# Altium integrated library Analog Devices Switches and Multiplexers Analog Switches.IntLib: 575 symbols (part 9 of 23)
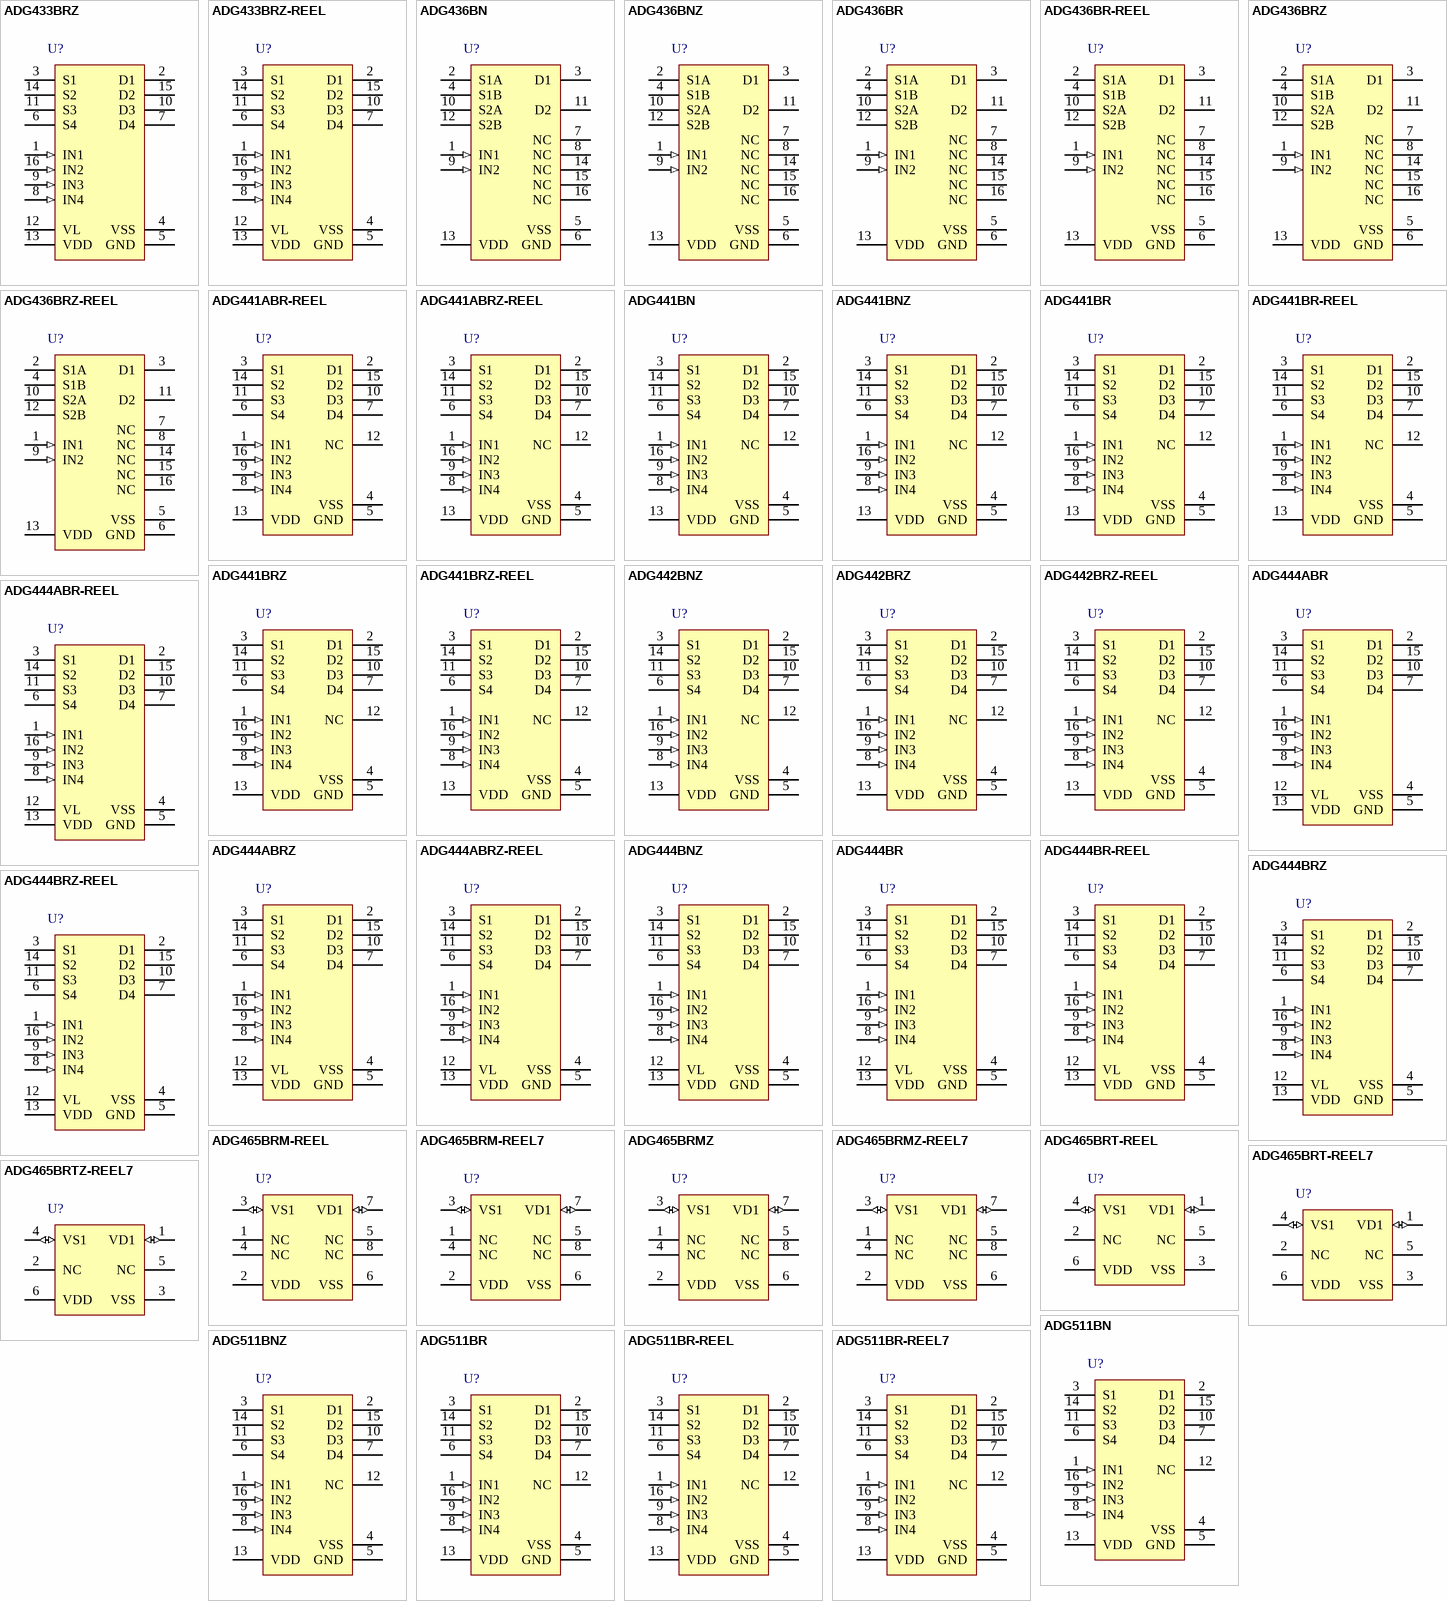
[diagram p23: symbols ADG433BRZ to ADG511BR-REEL7]

## ADG465BRTZ-REEL7
designator U?
Single Channel Protector, 80 Ohm Ron, 6-pin SOT23 (RT-6), Reel; Manufacturer: Analog Devices; PartNumber: ADG465BRTZ-REEL7; # Sw Functions: 1; Max Neg Supply: -20V; Max Pos Supply: +20V; Ron (ohms): 80; DatasheetVersion: Rev. A; PackageVersion: 121608-A, 12/2008; PackageReference: RJ-6; PackageDescription: 6-Pin Small Outline Transistor Package, Body 2.9 x 1.6 mm, Pitch 0.95 mm; Supplier 1: Digi-Key; Supplier Part Number 1: ADG465BRTZ-REEL7TR-ND; Supplier 2: Digi-Key; Supplier Part Number 2: ADG465BRTZ-REEL7CT-ND; Supplier 3: Digi-Key; Supplier Part Number 3: ADG465BRTZ-REEL7DKR-ND; Supplier 4: Farnell; Supplier Part Number 4: 2376952; Supplier 5: Farnell; Supplier Part Number 5: 2312836; Supplier 6: Newark; Supplier Part Number 6: 67W2636; Supplier 7: Newark; Supplier Part Number 7: 59K1345; Supplier 8: Mouser; Supplier Part Number 8: 584-ADG465BRTZ-R7; Configuration: Channel Protector; Packing: Reel; Mounting Technology: Surface Mount; Code_JEDEC: MO-178-AB; ComponentLink1Description: Manufacturer URL; ComponentLink1URL: http://www.analog.com/en/index.html; ComponentLink2Description: Datasheet; ComponentLink2URL: http://www.analog.com/static/imported-files/data_sheets/ADG465.pdf; ComponentLink3Description: Package Specification; ComponentLink3URL: http://www.analog.com/static/imported-files/packages/PKG_PDF/SOT-23(RJ)/RJ_6.pdf
footprint ADI-RJ-6_N (SOT23, 6-Leads, Body 2.9x1.6mm, Pitch 0.95mm, IPC Medium Density)
footprint ADI-RJ-6_L (SOT23, 6-Leads, Body 2.9x1.6mm, Pitch 0.95mm, IPC High Density)
footprint ADI-RJ-6_M (SOT23, 6-Leads, Body 2.9x1.6mm, Pitch 0.95mm, IPC Low Density)
pins: 1 VD1 (io) "VD1, this is one terminal of the channel protector. The channel protector is bidirectional so this terminal may be used as an input or an output.", 2 NC "NC, this is a no connect pin.", 3 VSS (power) "VSS, Negative Power Supply (0 V to -20 V). The clamping point for a negative overvoltage is also defined by VSS, see Overvoltage Protection section.", 4 VS1 (io) "VS1, this is one terminal of the channel protector. The channel protector is bidirectional so this terminal may be used as an output or an input.", 5 NC "NC, this is a no connect pin.", 6 VDD (power) "VDD, Positive Power Supply (0 V to 20 V). The clamping point for a positive overvoltage is also defined by VDD, see Overvoltage Protection section."

## ADG511BN
designator U?
LC2MOS Precision 5 V / 3 V Quad SPST Switches, 30 Ohm Ron, 16-pin DIP (N-16), Tube; Manufacturer: Analog Devices; PartNumber: ADG511BN; # Sw Functions: 4; Max Neg Supply: -5.5V; Max Pos Supply: +5.5V; Ron (ohms): 30, 45, 200; t ON: 200ns, 250ns, 600ns; DatasheetVersion: Rev. C; PackageVersion: 070706-A, 07/2006; PackageReference: N-16; PackageDescription: 16-Pin Plastic Dual In-Line Package, Row spacing 7.62 mm, Pitch 2.54 mm; Supplier 1: Digi-Key; Supplier Part Number 1: ADG511BN-ND; Configuration: SPST; Packing: Tube; Mounting Technology: Through Hole; Code_JEDEC: MS-001; ComponentLink1Description: Manufacturer URL; ComponentLink1URL: http://www.analog.com/en/index.html; ComponentLink2Description: Datasheet; ComponentLink2URL: http://www.analog.com/static/imported-files/data_sheets/ADG511_512_513.pdf; ComponentLink3Description: Package Specification; ComponentLink3URL: http://www.analog.com/static/imported-files/packages/44768431550332N_16.pdf
footprint ADI-N-16 (DIP, 16-Leads, Body 20.07x6.6mm, Pitch 2.54mm)
pins: 1 IN1 (in) "Logic Control Input.", 2 D1 "Drain Terminal. May be an input or output.", 3 S1 "Source Terminal. May be an input or output.", 4 VSS (power) "Most Negative Power Supply Potential in dual supplies. In single supply applications,it may be connected to GND.", 5 GND (power) "Ground (0 V) Reference.", 6 S4 "Source Terminal. May be an input or output.", 7 D4 "Drain Terminal. May be an input or output.", 8 IN4 (in) "Logic Control Input.", 9 IN3 (in) "Logic Control Input.", 10 D3 "Drain Terminal. May be an input or output.", 11 S3 "Source Terminal. May be an input or output.", 12 NC "Not connected.", 13 VDD (power) "Most Positive Power Supply Potential.", 14 S2 "Source Terminal. May be an input or output.", 15 D2 "Drain Terminal. May be an input or output.", 16 IN2 (in) "Logic Control Input."

## ADG511BNZ
designator U?
LC2MOS Precision 5 V / 3 V Quad SPST Switches, 30 Ohm Ron, 16-pin DIP (N-16), Tube; Manufacturer: Analog Devices; PartNumber: ADG511BNZ; # Sw Functions: 4; Max Neg Supply: -5.5V; Max Pos Supply: +5.5V; Ron (ohms): 30, 45, 200; t ON: 200ns, 250ns, 600ns; DatasheetVersion: Rev. C; PackageVersion: 070706-A, 07/2006; PackageReference: N-16; PackageDescription: 16-Pin Plastic Dual In-Line Package, Row spacing 7.62 mm, Pitch 2.54 mm; Supplier 1: Digi-Key; Supplier Part Number 1: ADG511BNZ-ND; Supplier 2: Newark; Supplier Part Number 2: 59K1379; Configuration: SPST; Packing: Tube; Mounting Technology: Through Hole; Code_JEDEC: MS-001; ComponentLink1Description: Manufacturer URL; ComponentLink1URL: http://www.analog.com/en/index.html; ComponentLink2Description: Datasheet; ComponentLink2URL: http://www.analog.com/static/imported-files/data_sheets/ADG511_512_513.pdf; ComponentLink3Description: Package Specification; ComponentLink3URL: http://www.analog.com/static/imported-files/packages/44768431550332N_16.pdf
footprint ADI-N-16 (DIP, 16-Leads, Body 20.07x6.6mm, Pitch 2.54mm)
pins: 1 IN1 (in) "Logic Control Input.", 2 D1 "Drain Terminal. May be an input or output.", 3 S1 "Source Terminal. May be an input or output.", 4 VSS (power) "Most Negative Power Supply Potential in dual supplies. In single supply applications,it may be connected to GND.", 5 GND (power) "Ground (0 V) Reference.", 6 S4 "Source Terminal. May be an input or output.", 7 D4 "Drain Terminal. May be an input or output.", 8 IN4 (in) "Logic Control Input.", 9 IN3 (in) "Logic Control Input.", 10 D3 "Drain Terminal. May be an input or output.", 11 S3 "Source Terminal. May be an input or output.", 12 NC "Not connected.", 13 VDD (power) "Most Positive Power Supply Potential.", 14 S2 "Source Terminal. May be an input or output.", 15 D2 "Drain Terminal. May be an input or output.", 16 IN2 (in) "Logic Control Input."

## ADG511BR
designator U?
LC2MOS Precision 5 V / 3 V Quad SPST Switches, 30 Ohm Ron, 16-pin SOIC (R-16), Tube; Manufacturer: Analog Devices; PartNumber: ADG511BR; # Sw Functions: 4; Max Neg Supply: -5.5V; Max Pos Supply: +5.5V; Ron (ohms): 30, 45, 200; t ON: 200ns, 250ns, 600ns; DatasheetVersion: Rev. C; PackageVersion: 060606-A, 06/2006; PackageReference: R-16; PackageDescription: 16-Pin Standard Small Outline Package, Body 9.9 x 3.9 mm, Pitch 1.27 mm; Supplier 1: Digi-Key; Supplier Part Number 1: ADG511BR-ND; Supplier 2: Mouser; Supplier Part Number 2: 584-ADG511BR; Configuration: SPST; Packing: Tube; Mounting Technology: Surface Mount; Code_JEDEC: MS-012-AC; ComponentLink1Description: Manufacturer URL; ComponentLink1URL: http://www.analog.com/en/index.html; ComponentLink2Description: Datasheet; ComponentLink2URL: http://www.analog.com/static/imported-files/data_sheets/ADG511_512_513.pdf; ComponentLink3Description: Package Specification; ComponentLink3URL: http://www.analog.com/static/imported-files/packages/PKG_PDF/SOIC_Narrow%20(R)/R_16.pdf
footprint ADI-R-16_N (SOIC, 16-Leads, Body 9.9x3.9mm, Pitch 1.27mm, IPC Medium Density)
footprint ADI-R-16_L (SOIC, 16-Leads, Body 9.9x3.9mm, Pitch 1.27mm, IPC High Density)
footprint ADI-R-16_M (SOIC, 16-Leads, Body 9.9x3.9mm, Pitch 1.27mm, IPC Low Density)
pins: 1 IN1 (in) "Logic Control Input.", 2 D1 "Drain Terminal. Can be an input or output.", 3 S1 "Source Terminal. Can be an input or output.", 4 VSS (power) "Most Negative Power Supply Potential.", 5 GND (power) "Ground (0 V) Reference.", 6 S4 "Source Terminal. Can be an input or output.", 7 D4 "Drain Terminal. Can be an input or output.", 8 IN4 (in) "Logic Control Input.", 9 IN3 (in) "Logic Control Input.", 10 D3 "Drain Terminal. Can be an input or output.", 11 S3 "Source Terminal. Can be an input or output.", 12 NC "No Connect.", 13 VDD (power) "Most Positive Power Supply Potential.", 14 S2 "Source Terminal. Can be an input or output.", 15 D2 "Drain Terminal. Can be an input or output.", 16 IN2 (in) "Logic Control Input."

## ADG511BR-REEL
designator U?
LC2MOS Precision 5 V / 3 V Quad SPST Switches, 30 Ohm Ron, 16-pin SOIC (R-16), Reel; Manufacturer: Analog Devices; PartNumber: ADG511BR-REEL; # Sw Functions: 4; Max Neg Supply: -5.5V; Max Pos Supply: +5.5V; Ron (ohms): 30, 45, 200; t ON: 200ns, 250ns, 600ns; DatasheetVersion: Rev. C; PackageVersion: 060606-A, 06/2006; PackageReference: R-16; PackageDescription: 16-Pin Standard Small Outline Package, Body 9.9 x 3.9 mm, Pitch 1.27 mm; Supplier 1: Digi-Key; Supplier Part Number 1: ADG511BR-REEL-ND; Configuration: SPST; Packing: Reel; Mounting Technology: Surface Mount; Code_JEDEC: MS-012-AC; ComponentLink1Description: Manufacturer URL; ComponentLink1URL: http://www.analog.com/en/index.html; ComponentLink2Description: Datasheet; ComponentLink2URL: http://www.analog.com/static/imported-files/data_sheets/ADG511_512_513.pdf; ComponentLink3Description: Package Specification; ComponentLink3URL: http://www.analog.com/static/imported-files/packages/PKG_PDF/SOIC_Narrow%20(R)/R_16.pdf
footprint ADI-R-16_N (SOIC, 16-Leads, Body 9.9x3.9mm, Pitch 1.27mm, IPC Medium Density)
footprint ADI-R-16_L (SOIC, 16-Leads, Body 9.9x3.9mm, Pitch 1.27mm, IPC High Density)
footprint ADI-R-16_M (SOIC, 16-Leads, Body 9.9x3.9mm, Pitch 1.27mm, IPC Low Density)
pins: 1 IN1 (in) "Logic Control Input.", 2 D1 "Drain Terminal. Can be an input or output.", 3 S1 "Source Terminal. Can be an input or output.", 4 VSS (power) "Most Negative Power Supply Potential.", 5 GND (power) "Ground (0 V) Reference.", 6 S4 "Source Terminal. Can be an input or output.", 7 D4 "Drain Terminal. Can be an input or output.", 8 IN4 (in) "Logic Control Input.", 9 IN3 (in) "Logic Control Input.", 10 D3 "Drain Terminal. Can be an input or output.", 11 S3 "Source Terminal. Can be an input or output.", 12 NC "No Connect.", 13 VDD (power) "Most Positive Power Supply Potential.", 14 S2 "Source Terminal. Can be an input or output.", 15 D2 "Drain Terminal. Can be an input or output.", 16 IN2 (in) "Logic Control Input."

## ADG511BR-REEL7
designator U?
LC2MOS Precision 5 V / 3 V Quad SPST Switches, 30 Ohm Ron, 16-pin SOIC (R-16), Reel; Manufacturer: Analog Devices; PartNumber: ADG511BR-REEL7; # Sw Functions: 4; Max Neg Supply: -5.5V; Max Pos Supply: +5.5V; Ron (ohms): 30, 45, 200; t ON: 200ns, 250ns, 600ns; DatasheetVersion: Rev. C; PackageVersion: 060606-A, 06/2006; PackageReference: R-16; PackageDescription: 16-Pin Standard Small Outline Package, Body 9.9 x 3.9 mm, Pitch 1.27 mm; Supplier 1: Digi-Key; Supplier Part Number 1: ADG511BR-REEL7-ND; Supplier 2: Mouser; Supplier Part Number 2: 584-ADG511BR-R7; Configuration: SPST; Packing: Reel; Mounting Technology: Surface Mount; Code_JEDEC: MS-012-AC; ComponentLink1Description: Manufacturer URL; ComponentLink1URL: http://www.analog.com/en/index.html; ComponentLink2Description: Datasheet; ComponentLink2URL: http://www.analog.com/static/imported-files/data_sheets/ADG511_512_513.pdf; ComponentLink3Description: Package Specification; ComponentLink3URL: http://www.analog.com/static/imported-files/packages/PKG_PDF/SOIC_Narrow%20(R)/R_16.pdf
footprint ADI-R-16_N (SOIC, 16-Leads, Body 9.9x3.9mm, Pitch 1.27mm, IPC Medium Density)
footprint ADI-R-16_L (SOIC, 16-Leads, Body 9.9x3.9mm, Pitch 1.27mm, IPC High Density)
footprint ADI-R-16_M (SOIC, 16-Leads, Body 9.9x3.9mm, Pitch 1.27mm, IPC Low Density)
pins: 1 IN1 (in) "Logic Control Input.", 2 D1 "Drain Terminal. Can be an input or output.", 3 S1 "Source Terminal. Can be an input or output.", 4 VSS (power) "Most Negative Power Supply Potential.", 5 GND (power) "Ground (0 V) Reference.", 6 S4 "Source Terminal. Can be an input or output.", 7 D4 "Drain Terminal. Can be an input or output.", 8 IN4 (in) "Logic Control Input.", 9 IN3 (in) "Logic Control Input.", 10 D3 "Drain Terminal. Can be an input or output.", 11 S3 "Source Terminal. Can be an input or output.", 12 NC "No Connect.", 13 VDD (power) "Most Positive Power Supply Potential.", 14 S2 "Source Terminal. Can be an input or output.", 15 D2 "Drain Terminal. Can be an input or output.", 16 IN2 (in) "Logic Control Input."

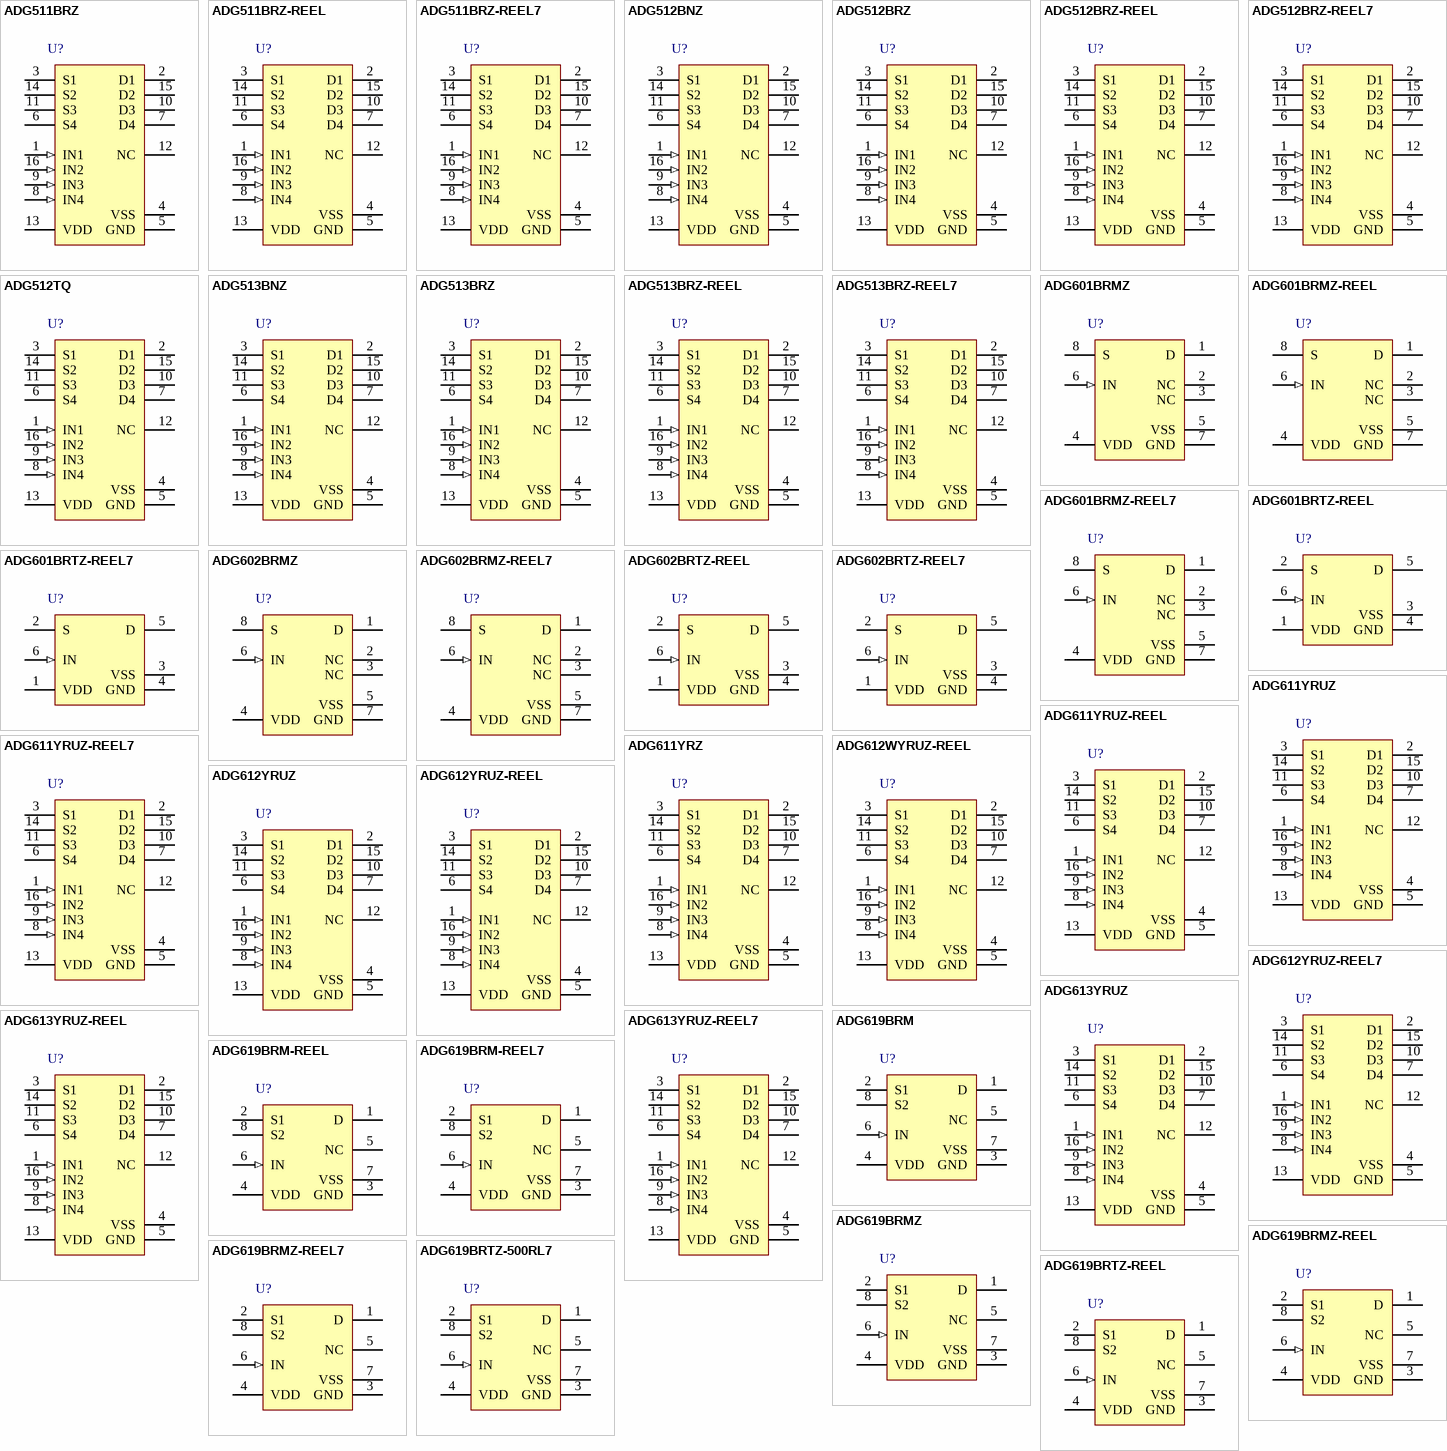
[diagram p6: symbols ADG511BRZ to ADG619BRTZ-REEL]

## ADG511BRZ
designator U?
LC2MOS Precision 5 V / 3 V Quad SPST Switches, 30 Ohm Ron, 16-pin SOIC (R-16), Tube; Manufacturer: Analog Devices; PartNumber: ADG511BRZ; # Sw Functions: 4; Max Neg Supply: -5.5V; Max Pos Supply: +5.5V; Ron (ohms): 30, 45, 200; t ON: 200ns, 250ns, 600ns; DatasheetVersion: Rev. C; PackageVersion: 060606-A, 06/2006; PackageReference: R-16; PackageDescription: 16-Pin Standard Small Outline Package, Body 9.9 x 3.9 mm, Pitch 1.27 mm; Supplier 1: Digi-Key; Supplier Part Number 1: ADG511BRZ-ND; Supplier 2: Farnell; Supplier Part Number 2: 2305654; Supplier 3: Newark; Supplier Part Number 3: 59K1380; Supplier 4: Mouser; Supplier Part Number 4: 584-ADG511BRZ; Configuration: SPST; Packing: Tube; Mounting Technology: Surface Mount; Code_JEDEC: MS-012-AC; ComponentLink1Description: Manufacturer URL; ComponentLink1URL: http://www.analog.com/en/index.html; ComponentLink2Description: Datasheet; ComponentLink2URL: http://www.analog.com/static/imported-files/data_sheets/ADG511_512_513.pdf; ComponentLink3Description: Package Specification; ComponentLink3URL: http://www.analog.com/static/imported-files/packages/PKG_PDF/SOIC_Narrow%20(R)/R_16.pdf
footprint ADI-R-16_N (SOIC, 16-Leads, Body 9.9x3.9mm, Pitch 1.27mm, IPC Medium Density)
footprint ADI-R-16_L (SOIC, 16-Leads, Body 9.9x3.9mm, Pitch 1.27mm, IPC High Density)
footprint ADI-R-16_M (SOIC, 16-Leads, Body 9.9x3.9mm, Pitch 1.27mm, IPC Low Density)
pins: 1 IN1 (in) "Logic Control Input.", 2 D1 "Drain Terminal. Can be an input or output.", 3 S1 "Source Terminal. Can be an input or output.", 4 VSS (power) "Most Negative Power Supply Potential.", 5 GND (power) "Ground (0 V) Reference.", 6 S4 "Source Terminal. Can be an input or output.", 7 D4 "Drain Terminal. Can be an input or output.", 8 IN4 (in) "Logic Control Input.", 9 IN3 (in) "Logic Control Input.", 10 D3 "Drain Terminal. Can be an input or output.", 11 S3 "Source Terminal. Can be an input or output.", 12 NC "No Connect.", 13 VDD (power) "Most Positive Power Supply Potential.", 14 S2 "Source Terminal. Can be an input or output.", 15 D2 "Drain Terminal. Can be an input or output.", 16 IN2 (in) "Logic Control Input."

## ADG511BRZ-REEL
designator U?
LC2MOS Precision 5 V / 3 V Quad SPST Switches, 30 Ohm Ron, 16-pin SOIC (R-16), Reel; Manufacturer: Analog Devices; PartNumber: ADG511BRZ-REEL; # Sw Functions: 4; Max Neg Supply: -5.5V; Max Pos Supply: +5.5V; Ron (ohms): 30, 45, 200; t ON: 200ns, 250ns, 600ns; DatasheetVersion: Rev. C; PackageVersion: 060606-A, 06/2006; PackageReference: R-16; PackageDescription: 16-Pin Standard Small Outline Package, Body 9.9 x 3.9 mm, Pitch 1.27 mm; Supplier 1: Digi-Key; Supplier Part Number 1: ADG511BRZ-REEL-ND; Supplier 2: Mouser; Supplier Part Number 2: 584-ADG511BRZ-R; Configuration: SPST; Packing: Reel; Mounting Technology: Surface Mount; Code_JEDEC: MS-012-AC; ComponentLink1Description: Manufacturer URL; ComponentLink1URL: http://www.analog.com/en/index.html; ComponentLink2Description: Datasheet; ComponentLink2URL: http://www.analog.com/static/imported-files/data_sheets/ADG511_512_513.pdf; ComponentLink3Description: Package Specification; ComponentLink3URL: http://www.analog.com/static/imported-files/packages/PKG_PDF/SOIC_Narrow%20(R)/R_16.pdf
footprint ADI-R-16_N (SOIC, 16-Leads, Body 9.9x3.9mm, Pitch 1.27mm, IPC Medium Density)
footprint ADI-R-16_L (SOIC, 16-Leads, Body 9.9x3.9mm, Pitch 1.27mm, IPC High Density)
footprint ADI-R-16_M (SOIC, 16-Leads, Body 9.9x3.9mm, Pitch 1.27mm, IPC Low Density)
pins: 1 IN1 (in) "Logic Control Input.", 2 D1 "Drain Terminal. Can be an input or output.", 3 S1 "Source Terminal. Can be an input or output.", 4 VSS (power) "Most Negative Power Supply Potential.", 5 GND (power) "Ground (0 V) Reference.", 6 S4 "Source Terminal. Can be an input or output.", 7 D4 "Drain Terminal. Can be an input or output.", 8 IN4 (in) "Logic Control Input.", 9 IN3 (in) "Logic Control Input.", 10 D3 "Drain Terminal. Can be an input or output.", 11 S3 "Source Terminal. Can be an input or output.", 12 NC "No Connect.", 13 VDD (power) "Most Positive Power Supply Potential.", 14 S2 "Source Terminal. Can be an input or output.", 15 D2 "Drain Terminal. Can be an input or output.", 16 IN2 (in) "Logic Control Input."

## ADG511BRZ-REEL7
designator U?
LC2MOS Precision 5 V / 3 V Quad SPST Switches, 30 Ohm Ron, 16-pin SOIC (R-16), Reel; Manufacturer: Analog Devices; PartNumber: ADG511BRZ-REEL7; # Sw Functions: 4; Max Neg Supply: -5.5V; Max Pos Supply: +5.5V; Ron (ohms): 30, 45, 200; t ON: 200ns, 250ns, 600ns; DatasheetVersion: Rev. C; PackageVersion: 060606-A, 06/2006; PackageReference: R-16; PackageDescription: 16-Pin Standard Small Outline Package, Body 9.9 x 3.9 mm, Pitch 1.27 mm; Supplier 1: Digi-Key; Supplier Part Number 1: ADG511BRZ-REEL7TR-ND; Supplier 2: Digi-Key; Supplier Part Number 2: ADG511BRZ-REEL7CT-ND; Supplier 3: Digi-Key; Supplier Part Number 3: ADG511BRZ-REEL7DKR-ND; Supplier 4: Mouser; Supplier Part Number 4: 584-ADG511BRZ-R7; Configuration: SPST; Packing: Reel; Mounting Technology: Surface Mount; Code_JEDEC: MS-012-AC; ComponentLink1Description: Manufacturer URL; ComponentLink1URL: http://www.analog.com/en/index.html; ComponentLink2Description: Datasheet; ComponentLink2URL: http://www.analog.com/static/imported-files/data_sheets/ADG511_512_513.pdf; ComponentLink3Description: Package Specification; ComponentLink3URL: http://www.analog.com/static/imported-files/packages/PKG_PDF/SOIC_Narrow%20(R)/R_16.pdf
footprint ADI-R-16_N (SOIC, 16-Leads, Body 9.9x3.9mm, Pitch 1.27mm, IPC Medium Density)
footprint ADI-R-16_L (SOIC, 16-Leads, Body 9.9x3.9mm, Pitch 1.27mm, IPC High Density)
footprint ADI-R-16_M (SOIC, 16-Leads, Body 9.9x3.9mm, Pitch 1.27mm, IPC Low Density)
pins: 1 IN1 (in) "Logic Control Input.", 2 D1 "Drain Terminal. Can be an input or output.", 3 S1 "Source Terminal. Can be an input or output.", 4 VSS (power) "Most Negative Power Supply Potential.", 5 GND (power) "Ground (0 V) Reference.", 6 S4 "Source Terminal. Can be an input or output.", 7 D4 "Drain Terminal. Can be an input or output.", 8 IN4 (in) "Logic Control Input.", 9 IN3 (in) "Logic Control Input.", 10 D3 "Drain Terminal. Can be an input or output.", 11 S3 "Source Terminal. Can be an input or output.", 12 NC "No Connect.", 13 VDD (power) "Most Positive Power Supply Potential.", 14 S2 "Source Terminal. Can be an input or output.", 15 D2 "Drain Terminal. Can be an input or output.", 16 IN2 (in) "Logic Control Input."

## ADG512BNZ
designator U?
LC2MOS Precision 5 V / 3 V Quad SPST Switches, 30 Ohm Ron, 16-pin DIP (N-16), Tube; Manufacturer: Analog Devices; PartNumber: ADG512BNZ; # Sw Functions: 4; Max Neg Supply: -5.5V; Max Pos Supply: +5.5V; Ron (ohms): 30, 45, 200; t ON: 200ns, 250ns, 600ns; DatasheetVersion: Rev. C; PackageVersion: 070706-A, 07/2006; PackageReference: N-16; PackageDescription: 16-Pin Plastic Dual In-Line Package, Row spacing 7.62 mm, Pitch 2.54 mm; Supplier 1: Digi-Key; Supplier Part Number 1: ADG512BNZ-ND; Supplier 2: Mouser; Supplier Part Number 2: 584-ADG512BNZ; Configuration: SPST; Packing: Tube; Mounting Technology: Through Hole; Code_JEDEC: MS-001; ComponentLink1Description: Manufacturer URL; ComponentLink1URL: http://www.analog.com/en/index.html; ComponentLink2Description: Datasheet; ComponentLink2URL: http://www.analog.com/static/imported-files/data_sheets/ADG511_512_513.pdf; ComponentLink3Description: Package Specification; ComponentLink3URL: http://www.analog.com/static/imported-files/packages/44768431550332N_16.pdf
footprint ADI-N-16 (DIP, 16-Leads, Body 20.07x6.6mm, Pitch 2.54mm)
pins: 1 IN1 (in) "Logic Control Input.", 2 D1 "Drain Terminal. May be an input or output.", 3 S1 "Source Terminal. May be an input or output.", 4 VSS (power) "Most Negative Power Supply Potential in dual supplies. In single supply applications,it may be connected to GND.", 5 GND (power) "Ground (0 V) Reference.", 6 S4 "Source Terminal. May be an input or output.", 7 D4 "Drain Terminal. May be an input or output.", 8 IN4 (in) "Logic Control Input.", 9 IN3 (in) "Logic Control Input.", 10 D3 "Drain Terminal. May be an input or output.", 11 S3 "Source Terminal. May be an input or output.", 12 NC "Not connected.", 13 VDD (power) "Most Positive Power Supply Potential.", 14 S2 "Source Terminal. May be an input or output.", 15 D2 "Drain Terminal. May be an input or output.", 16 IN2 (in) "Logic Control Input."

## ADG512BRZ
designator U?
LC2MOS Precision 5 V / 3 V Quad SPST Switches, 30 Ohm Ron, 16-pin SOIC (R-16), Tube; Manufacturer: Analog Devices; PartNumber: ADG512BRZ; # Sw Functions: 4; Max Neg Supply: -5.5V; Max Pos Supply: +5.5V; Ron (ohms): 30, 45, 200; t ON: 200ns, 250ns, 600ns; DatasheetVersion: Rev. C; PackageVersion: 060606-A, 06/2006; PackageReference: R-16; PackageDescription: 16-Pin Standard Small Outline Package, Body 9.9 x 3.9 mm, Pitch 1.27 mm; Supplier 1: Digi-Key; Supplier Part Number 1: ADG512BRZ-ND; Supplier 2: Farnell; Supplier Part Number 2: 2305655; Supplier 3: Newark; Supplier Part Number 3: 59K1384; Supplier 4: Mouser; Supplier Part Number 4: 584-ADG512BRZ; Configuration: SPST; Packing: Tube; Mounting Technology: Surface Mount; Code_JEDEC: MS-012-AC; ComponentLink1Description: Manufacturer URL; ComponentLink1URL: http://www.analog.com/en/index.html; ComponentLink2Description: Datasheet; ComponentLink2URL: http://www.analog.com/static/imported-files/data_sheets/ADG511_512_513.pdf; ComponentLink3Description: Package Specification; ComponentLink3URL: http://www.analog.com/static/imported-files/packages/PKG_PDF/SOIC_Narrow%20(R)/R_16.pdf
footprint ADI-R-16_N (SOIC, 16-Leads, Body 9.9x3.9mm, Pitch 1.27mm, IPC Medium Density)
footprint ADI-R-16_L (SOIC, 16-Leads, Body 9.9x3.9mm, Pitch 1.27mm, IPC High Density)
footprint ADI-R-16_M (SOIC, 16-Leads, Body 9.9x3.9mm, Pitch 1.27mm, IPC Low Density)
pins: 1 IN1 (in) "Logic Control Input.", 2 D1 "Drain Terminal. May be an input or output.", 3 S1 "Source Terminal. May be an input or output.", 4 VSS (power) "Most Negative Power Supply Potential in dual supplies. In single supply applications,it may be connected to GND.", 5 GND (power) "Ground (0 V) Reference.", 6 S4 "Source Terminal. May be an input or output.", 7 D4 "Drain Terminal. May be an input or output.", 8 IN4 (in) "Logic Control Input.", 9 IN3 (in) "Logic Control Input.", 10 D3 "Drain Terminal. May be an input or output.", 11 S3 "Source Terminal. May be an input or output.", 12 NC "Not connected.", 13 VDD (power) "Most Positive Power Supply Potential.", 14 S2 "Source Terminal. May be an input or output.", 15 D2 "Drain Terminal. May be an input or output.", 16 IN2 (in) "Logic Control Input."

## ADG512BRZ-REEL
designator U?
LC2MOS Precision 5 V / 3 V Quad SPST Switches, 30 Ohm Ron, 16-pin SOIC (R-16), Reel; Manufacturer: Analog Devices; PartNumber: ADG512BRZ-REEL; # Sw Functions: 4; Max Neg Supply: -5.5V; Max Pos Supply: +5.5V; Ron (ohms): 30, 45, 200; t ON: 200ns, 250ns, 600ns; DatasheetVersion: Rev. C; PackageVersion: 060606-A, 06/2006; PackageReference: R-16; PackageDescription: 16-Pin Standard Small Outline Package, Body 9.9 x 3.9 mm, Pitch 1.27 mm; Supplier 1: Digi-Key; Supplier Part Number 1: ADG512BRZ-REEL-ND; Supplier 2: Mouser; Supplier Part Number 2: 584-ADG512BRZ-R; Configuration: SPST; Packing: Reel; Mounting Technology: Surface Mount; Code_JEDEC: MS-012-AC; ComponentLink1Description: Manufacturer URL; ComponentLink1URL: http://www.analog.com/en/index.html; ComponentLink2Description: Datasheet; ComponentLink2URL: http://www.analog.com/static/imported-files/data_sheets/ADG511_512_513.pdf; ComponentLink3Description: Package Specification; ComponentLink3URL: http://www.analog.com/static/imported-files/packages/PKG_PDF/SOIC_Narrow%20(R)/R_16.pdf
footprint ADI-R-16_N (SOIC, 16-Leads, Body 9.9x3.9mm, Pitch 1.27mm, IPC Medium Density)
footprint ADI-R-16_L (SOIC, 16-Leads, Body 9.9x3.9mm, Pitch 1.27mm, IPC High Density)
footprint ADI-R-16_M (SOIC, 16-Leads, Body 9.9x3.9mm, Pitch 1.27mm, IPC Low Density)
pins: 1 IN1 (in) "Logic Control Input.", 2 D1 "Drain Terminal. Can be an input or output.", 3 S1 "Source Terminal. Can be an input or output.", 4 VSS (power) "Most Negative Power Supply Potential.", 5 GND (power) "Ground (0 V) Reference.", 6 S4 "Source Terminal. Can be an input or output.", 7 D4 "Drain Terminal. Can be an input or output.", 8 IN4 (in) "Logic Control Input.", 9 IN3 (in) "Logic Control Input.", 10 D3 "Drain Terminal. Can be an input or output.", 11 S3 "Source Terminal. Can be an input or output.", 12 NC "No Connect.", 13 VDD (power) "Most Positive Power Supply Potential.", 14 S2 "Source Terminal. Can be an input or output.", 15 D2 "Drain Terminal. Can be an input or output.", 16 IN2 (in) "Logic Control Input."

## ADG512BRZ-REEL7
designator U?
LC2MOS Precision 5 V / 3 V Quad SPST Switches, 30 Ohm Ron, 16-pin SOIC (R-16), Reel; Manufacturer: Analog Devices; PartNumber: ADG512BRZ-REEL7; # Sw Functions: 4; Max Neg Supply: -5.5V; Max Pos Supply: +5.5V; Ron (ohms): 30, 45, 200; t ON: 200ns, 250ns, 600ns; DatasheetVersion: Rev. C; PackageVersion: 060606-A, 06/2006; PackageReference: R-16; PackageDescription: 16-Pin Standard Small Outline Package, Body 9.9 x 3.9 mm, Pitch 1.27 mm; Supplier 1: Digi-Key; Supplier Part Number 1: ADG512BRZ-REEL7TR-ND; Supplier 2: Digi-Key; Supplier Part Number 2: ADG512BRZ-REEL7CT-ND; Supplier 3: Digi-Key; Supplier Part Number 3: ADG512BRZ-REEL7DKR-ND; Supplier 4: Mouser; Supplier Part Number 4: 584-ADG512BRZ-R7; Configuration: SPST; Packing: Reel; Mounting Technology: Surface Mount; Code_JEDEC: MS-012-AC; ComponentLink1Description: Manufacturer URL; ComponentLink1URL: http://www.analog.com/en/index.html; ComponentLink2Description: Datasheet; ComponentLink2URL: http://www.analog.com/static/imported-files/data_sheets/ADG511_512_513.pdf; ComponentLink3Description: Package Specification; ComponentLink3URL: http://www.analog.com/static/imported-files/packages/PKG_PDF/SOIC_Narrow%20(R)/R_16.pdf
footprint ADI-R-16_N (SOIC, 16-Leads, Body 9.9x3.9mm, Pitch 1.27mm, IPC Medium Density)
footprint ADI-R-16_L (SOIC, 16-Leads, Body 9.9x3.9mm, Pitch 1.27mm, IPC High Density)
footprint ADI-R-16_M (SOIC, 16-Leads, Body 9.9x3.9mm, Pitch 1.27mm, IPC Low Density)
pins: 1 IN1 (in) "Logic Control Input.", 2 D1 "Drain Terminal. Can be an input or output.", 3 S1 "Source Terminal. Can be an input or output.", 4 VSS (power) "Most Negative Power Supply Potential.", 5 GND (power) "Ground (0 V) Reference.", 6 S4 "Source Terminal. Can be an input or output.", 7 D4 "Drain Terminal. Can be an input or output.", 8 IN4 (in) "Logic Control Input.", 9 IN3 (in) "Logic Control Input.", 10 D3 "Drain Terminal. Can be an input or output.", 11 S3 "Source Terminal. Can be an input or output.", 12 NC "No Connect.", 13 VDD (power) "Most Positive Power Supply Potential.", 14 S2 "Source Terminal. Can be an input or output.", 15 D2 "Drain Terminal. Can be an input or output.", 16 IN2 (in) "Logic Control Input."

## ADG512TQ
designator U?
LC2MOS Precision 5 V / 3 V Quad SPST Switches, 30 Ohm Ron, 16-pin DIP (Q-16), Tube; Manufacturer: Analog Devices; PartNumber: ADG512TQ; # Sw Functions: 4; Max Neg Supply: -5.5V; Max Pos Supply: +5.5V; Ron (ohms): 30, 45; t ON: 200ns, 250ns; DatasheetVersion: Rev. C; PackageVersion: Aug-05; PackageReference: Q-16; PackageDescription: 16-Pin Ceramic Dual In-Line Package, Row spacing 7.62 mm, Pitch 2.54 mm; Supplier 1: Digi-Key; Supplier Part Number 1: ADG512TQ-ND; Supplier 2: Mouser; Supplier Part Number 2: 584-ADG512TQ; Configuration: SPST; Packing: Tube; Mounting Technology: Through Hole; ComponentLink1Description: Manufacturer URL; ComponentLink1URL: http://www.analog.com/en/index.html; ComponentLink2Description: Datasheet; ComponentLink2URL: http://www.analog.com/static/imported-files/data_sheets/ADG511_512_513.pdf; ComponentLink3Description: Package Specification; ComponentLink3URL: http://www.analog.com/static/imported-files/packages/54083157002221Q_16.pdf
footprint ADI-Q-16 (DIP, 16-Leads, Body 21.34x6.73mm, Pitch 2.54mm)
pins: 1 IN1 (in) "Logic Control Input.", 2 D1 "Drain Terminal. May be an input or output.", 3 S1 "Source Terminal. May be an input or output.", 4 VSS (power) "Most Negative Power Supply Potential in dual supplies. In single supply applications,it may be connected to GND.", 5 GND (power) "Ground (0 V) Reference.", 6 S4 "Source Terminal. May be an input or output.", 7 D4 "Drain Terminal. May be an input or output.", 8 IN4 (in) "Logic Control Input.", 9 IN3 (in) "Logic Control Input.", 10 D3 "Drain Terminal. May be an input or output.", 11 S3 "Source Terminal. May be an input or output.", 12 NC "Not connected.", 13 VDD (power) "Most Positive Power Supply Potential.", 14 S2 "Source Terminal. May be an input or output.", 15 D2 "Drain Terminal. May be an input or output.", 16 IN2 (in) "Logic Control Input."

## ADG513BNZ
designator U?
LC2MOS Precision 5 V / 3 V Quad SPST Switches, 30 Ohm Ron, 16-pin DIP (N-16), Tube; Manufacturer: Analog Devices; PartNumber: ADG513BNZ; # Sw Functions: 4; Max Neg Supply: -5.5V; Max Pos Supply: +5.5V; Ron (ohms): 30, 45, 200; t ON: 200ns, 250ns, 600ns; DatasheetVersion: Rev. C; PackageVersion: 070706-A, 07/2006; PackageReference: N-16; PackageDescription: 16-Pin Plastic Dual In-Line Package, Row spacing 7.62 mm, Pitch 2.54 mm; Supplier 1: Digi-Key; Supplier Part Number 1: ADG513BNZ-ND; Supplier 2: Mouser; Supplier Part Number 2: 584-ADG513BNZ; Configuration: SPST; Packing: Tube; Mounting Technology: Through Hole; Code_JEDEC: MS-001; ComponentLink1Description: Manufacturer URL; ComponentLink1URL: http://www.analog.com/en/index.html; ComponentLink2Description: Datasheet; ComponentLink2URL: http://www.analog.com/static/imported-files/data_sheets/ADG511_512_513.pdf; ComponentLink3Description: Package Specification; ComponentLink3URL: http://www.analog.com/static/imported-files/packages/44768431550332N_16.pdf
footprint ADI-N-16 (DIP, 16-Leads, Body 20.07x6.6mm, Pitch 2.54mm)
pins: 1 IN1 (in) "Logic Control Input.", 2 D1 "Drain Terminal. May be an input or output.", 3 S1 "Source Terminal. May be an input or output.", 4 VSS (power) "Most Negative Power Supply Potential in dual supplies. In single supply applications, it may be connected to GND.", 5 GND (power) "Ground (0 V) Reference.", 6 S4 "Source Terminal. May be an input or output.", 7 D4 "Drain Terminal. May be an input or output.", 8 IN4 (in) "Logic Control Input.", 9 IN3 (in) "Logic Control Input.", 10 D3 "Drain Terminal. May be an input or output.", 11 S3 "Source Terminal. May be an input or output.", 12 NC "Not Connect.", 13 VDD (power) "Most Positive Power Supply Potential.", 14 S2 "Source Terminal. May be an input or output.", 15 D2 "Drain Terminal. May be an input or output.", 16 IN2 (in) "Logic Control Input."

## ADG513BRZ
designator U?
LC2MOS Precision 5 V / 3 V Quad SPST Switches, 30 Ohm Ron, 16-pin SOIC (R-16), Tube; Manufacturer: Analog Devices; PartNumber: ADG513BRZ; # Sw Functions: 4; Max Neg Supply: -5.5V; Max Pos Supply: +5.5V; Ron (ohms): 30, 45, 200; t ON: 200ns, 250ns, 600ns; DatasheetVersion: Rev. C; PackageVersion: 060606-A, 06/2006; PackageReference: R-16; PackageDescription: 16-Pin Standard Small Outline Package, Body 9.9 x 3.9 mm, Pitch 1.27 mm; Supplier 1: Digi-Key; Supplier Part Number 1: ADG513BRZ-ND; Supplier 2: Farnell; Supplier Part Number 2: 2305656; Supplier 3: Newark; Supplier Part Number 3: 59K1390; Supplier 4: Mouser; Supplier Part Number 4: 584-ADG513BRZ; Configuration: SPST; Packing: Tube; Mounting Technology: Surface Mount; Code_JEDEC: MS-012-AC; ComponentLink1Description: Manufacturer URL; ComponentLink1URL: http://www.analog.com/en/index.html; ComponentLink2Description: Datasheet; ComponentLink2URL: http://www.analog.com/static/imported-files/data_sheets/ADG511_512_513.pdf; ComponentLink3Description: Package Specification; ComponentLink3URL: http://www.analog.com/static/imported-files/packages/PKG_PDF/SOIC_Narrow%20(R)/R_16.pdf
footprint ADI-R-16_N (SOIC, 16-Leads, Body 9.9x3.9mm, Pitch 1.27mm, IPC Medium Density)
footprint ADI-R-16_L (SOIC, 16-Leads, Body 9.9x3.9mm, Pitch 1.27mm, IPC High Density)
footprint ADI-R-16_M (SOIC, 16-Leads, Body 9.9x3.9mm, Pitch 1.27mm, IPC Low Density)
pins: 1 IN1 (in) "Logic Control Input.", 2 D1 "Drain Terminal. May be an input or output.", 3 S1 "Source Terminal. May be an input or output.", 4 VSS (power) "Most Negative Power Supply Potential in dual supplies. In single supply applications, it may be connected to GND.", 5 GND (power) "Ground (0 V) Reference.", 6 S4 "Source Terminal. May be an input or output.", 7 D4 "Drain Terminal. May be an input or output.", 8 IN4 (in) "Logic Control Input.", 9 IN3 (in) "Logic Control Input.", 10 D3 "Drain Terminal. May be an input or output.", 11 S3 "Source Terminal. May be an input or output.", 12 NC "No connection.", 13 VDD (power) "Most Positive Power Supply Potential.", 14 S2 "Source Terminal. May be an input or output.", 15 D2 "Drain Terminal. May be an input or output.", 16 IN2 (in) "Logic Control Input."

## ADG513BRZ-REEL
designator U?
LC2MOS Precision 5 V / 3 V Quad SPST Switches, 30 Ohm Ron, 16-pin SOIC (R-16), Reel; Manufacturer: Analog Devices; PartNumber: ADG513BRZ-REEL; # Sw Functions: 4; Max Neg Supply: -5.5V; Max Pos Supply: +5.5V; Ron (ohms): 30, 45, 200; t ON: 200ns, 250ns, 600ns; DatasheetVersion: Rev. C; PackageVersion: 060606-A, 06/2006; PackageReference: R-16; PackageDescription: 16-Pin Standard Small Outline Package, Body 9.9 x 3.9 mm, Pitch 1.27 mm; Supplier 1: Digi-Key; Supplier Part Number 1: ADG513BRZ-REEL-ND; Supplier 2: Mouser; Supplier Part Number 2: 584-ADG513BRZ-R; Configuration: SPST; Packing: Reel; Mounting Technology: Surface Mount; Code_JEDEC: MS-012-AC; ComponentLink1Description: Manufacturer URL; ComponentLink1URL: http://www.analog.com/en/index.html; ComponentLink2Description: Datasheet; ComponentLink2URL: http://www.analog.com/static/imported-files/data_sheets/ADG511_512_513.pdf; ComponentLink3Description: Package Specification; ComponentLink3URL: http://www.analog.com/static/imported-files/packages/PKG_PDF/SOIC_Narrow%20(R)/R_16.pdf
footprint ADI-R-16_N (SOIC, 16-Leads, Body 9.9x3.9mm, Pitch 1.27mm, IPC Medium Density)
footprint ADI-R-16_L (SOIC, 16-Leads, Body 9.9x3.9mm, Pitch 1.27mm, IPC High Density)
footprint ADI-R-16_M (SOIC, 16-Leads, Body 9.9x3.9mm, Pitch 1.27mm, IPC Low Density)
pins: 1 IN1 (in) "Logic Control Input.", 2 D1 "Drain Terminal. May be an input or output.", 3 S1 "Source Terminal. May be an input or output.", 4 VSS (power) "Most Negative Power Supply Potential in dual supplies. In single supply applications, it may be connected to GND.", 5 GND (power) "Ground (0 V) Reference.", 6 S4 "Source Terminal. May be an input or output.", 7 D4 "Drain Terminal. May be an input or output.", 8 IN4 (in) "Logic Control Input.", 9 IN3 (in) "Logic Control Input.", 10 D3 "Drain Terminal. May be an input or output.", 11 S3 "Source Terminal. May be an input or output.", 12 NC "No connection.", 13 VDD (power) "Most Positive Power Supply Potential.", 14 S2 "Source Terminal. May be an input or output.", 15 D2 "Drain Terminal. May be an input or output.", 16 IN2 (in) "Logic Control Input."

## ADG513BRZ-REEL7
designator U?
LC2MOS Precision 5 V / 3 V Quad SPST Switches, 30 Ohm Ron, 16-pin SOIC (R-16), Reel; Manufacturer: Analog Devices; PartNumber: ADG513BRZ-REEL7; # Sw Functions: 4; Max Neg Supply: -5.5V; Max Pos Supply: +5.5V; Ron (ohms): 30, 45, 200; t ON: 200ns, 250ns, 600ns; DatasheetVersion: Rev. C; PackageVersion: 060606-A, 06/2006; PackageReference: R-16; PackageDescription: 16-Pin Standard Small Outline Package, Body 9.9 x 3.9 mm, Pitch 1.27 mm; Supplier 1: Digi-Key; Supplier Part Number 1: ADG513BRZ-REEL7TR-ND; Supplier 2: Digi-Key; Supplier Part Number 2: ADG513BRZ-REEL7CT-ND; Supplier 3: Digi-Key; Supplier Part Number 3: ADG513BRZ-REEL7DKR-ND; Supplier 4: Mouser; Supplier Part Number 4: 584-ADG513BRZ-R7; Configuration: SPST; Packing: Reel; Mounting Technology: Surface Mount; Code_JEDEC: MS-012-AC; ComponentLink1Description: Manufacturer URL; ComponentLink1URL: http://www.analog.com/en/index.html; ComponentLink2Description: Datasheet; ComponentLink2URL: http://www.analog.com/static/imported-files/data_sheets/ADG511_512_513.pdf; ComponentLink3Description: Package Specification; ComponentLink3URL: http://www.analog.com/static/imported-files/packages/PKG_PDF/SOIC_Narrow%20(R)/R_16.pdf
footprint ADI-R-16_N (SOIC, 16-Leads, Body 9.9x3.9mm, Pitch 1.27mm, IPC Medium Density)
footprint ADI-R-16_L (SOIC, 16-Leads, Body 9.9x3.9mm, Pitch 1.27mm, IPC High Density)
footprint ADI-R-16_M (SOIC, 16-Leads, Body 9.9x3.9mm, Pitch 1.27mm, IPC Low Density)
pins: 1 IN1 (in) "Logic Control Input.", 2 D1 "Drain Terminal. May be an input or output.", 3 S1 "Source Terminal. May be an input or output.", 4 VSS (power) "Most Negative Power Supply Potential in dual supplies. In single supply applications, it may be connected to GND.", 5 GND (power) "Ground (0 V) Reference.", 6 S4 "Source Terminal. May be an input or output.", 7 D4 "Drain Terminal. May be an input or output.", 8 IN4 (in) "Logic Control Input.", 9 IN3 (in) "Logic Control Input.", 10 D3 "Drain Terminal. May be an input or output.", 11 S3 "Source Terminal. May be an input or output.", 12 NC "No connection.", 13 VDD (power) "Most Positive Power Supply Potential.", 14 S2 "Source Terminal. May be an input or output.", 15 D2 "Drain Terminal. May be an input or output.", 16 IN2 (in) "Logic Control Input."

## ADG601BRMZ
designator U?
2 Ohm, CMOS, +/-5 V / +5 V, SPST Switch, -40 to 85 degC, 8-pin SOP (RM-8), Tube; Manufacturer: Analog Devices; PartNumber: ADG601BRMZ; Id, Is (ON): 10pA, 10pA; Max Pos Supply: 5.5V; Min Pos Supply: 2.7V; Power Dissipation: 10uW; Ron (ohms): 2; DatasheetVersion: Rev. C; PackageVersion: Aug-05; PackageReference: RM-8; PackageDescription: 8-Pin Mini Small Outline Package, Body 3 x 3 mm, Pitch 0.65 mm; Supplier 1: Digi-Key; Supplier Part Number 1: ADG601BRMZ-ND; Supplier 2: Farnell; Supplier Part Number 2: 1438882; Supplier 3: Newark; Supplier Part Number 3: 59K1404; Supplier 4: Mouser; Supplier Part Number 4: 584-ADG601BRMZ; Configuration: SPST; Is OFF: 10pA, 10pA; Packing: Tube; Mounting Technology: Surface Mount; Code_JEDEC: MO-187-AA; ComponentLink1Description: Manufacturer URL; ComponentLink1URL: http://www.analog.com/en/index.html; ComponentLink2Description: Datasheet; ComponentLink2URL: http://www.analog.com/static/imported-files/data_sheets/ADG601_602.pdf; ComponentLink3Description: Package Specification; ComponentLink3URL: http://www.analog.com/static/imported-files/packages/PKG_PDF/MSOP%28RM%29/RM_8.pdf
footprint ADI-RM-8_N (SOP, 8-Leads, Body 3x3mm, Pitch 0.65mm, IPC Medium Density)
footprint ADI-RM-8_L (SOP, 8-Leads, Body 3x3mm, Pitch 0.65mm, IPC High Density)
footprint ADI-RM-8_M (SOP, 8-Leads, Body 3x3mm, Pitch 0.65mm, IPC Low Density)
pins: 1 D "Drain Terminal. Can be an input or output.", 2 NC "No Connect.", 3 NC "No Connect.", 4 VDD (power) "Most Positive Power Supply Potential.", 5 VSS (power) "Most Negative Power Supply Potential.", 6 IN (in) "Logic Control Input.", 7 GND (power) "Ground (0 V) Reference.", 8 S "Source Terminal. Can be an input or output."

## ADG601BRMZ-REEL
designator U?
2 Ohm, CMOS, +/-5 V / +5 V, SPST Switch, -40 to 85 degC, 8-pin SOP (RM-8), Reel; Manufacturer: Analog Devices; PartNumber: ADG601BRMZ-REEL; Id, Is (ON): 10pA, 10pA; Max Pos Supply: 5.5V; Min Pos Supply: 2.7V; Power Dissipation: 10uW; Ron (ohms): 2; DatasheetVersion: Rev. C; PackageVersion: Aug-05; PackageReference: RM-8; PackageDescription: 8-Pin Mini Small Outline Package, Body 3 x 3 mm, Pitch 0.65 mm; Supplier 1: Digi-Key; Supplier Part Number 1: ADG601BRMZ-REEL-ND; Configuration: SPST; Is OFF: 10pA, 10pA; Packing: Reel; Mounting Technology: Surface Mount; Code_JEDEC: MO-187-AA; ComponentLink1Description: Manufacturer URL; ComponentLink1URL: http://www.analog.com/en/index.html; ComponentLink2Description: Datasheet; ComponentLink2URL: http://www.analog.com/static/imported-files/data_sheets/ADG601_602.pdf; ComponentLink3Description: Package Specification; ComponentLink3URL: http://www.analog.com/static/imported-files/packages/PKG_PDF/MSOP%28RM%29/RM_8.pdf
footprint ADI-RM-8_N (SOP, 8-Leads, Body 3x3mm, Pitch 0.65mm, IPC Medium Density)
footprint ADI-RM-8_L (SOP, 8-Leads, Body 3x3mm, Pitch 0.65mm, IPC High Density)
footprint ADI-RM-8_M (SOP, 8-Leads, Body 3x3mm, Pitch 0.65mm, IPC Low Density)
pins: 1 D "Drain Terminal. Can be an input or output.", 2 NC "No Connect.", 3 NC "No Connect.", 4 VDD (power) "Most Positive Power Supply Potential.", 5 VSS (power) "Most Negative Power Supply Potential.", 6 IN (in) "Logic Control Input.", 7 GND (power) "Ground (0 V) Reference.", 8 S "Source Terminal. Can be an input or output."

## ADG601BRMZ-REEL7
designator U?
2 Ohm, CMOS, +/-5 V / +5 V, SPST Switch, -40 to 85 degC, 8-pin SOP (RM-8), Reel; Manufacturer: Analog Devices; PartNumber: ADG601BRMZ-REEL7; Id, Is (ON): 10pA, 10pA; Max Pos Supply: 5.5V; Min Pos Supply: 2.7V; Power Dissipation: 10uW; Ron (ohms): 2; DatasheetVersion: Rev. C; PackageVersion: Aug-05; PackageReference: RM-8; PackageDescription: 8-Pin Mini Small Outline Package, Body 3 x 3 mm, Pitch 0.65 mm; Supplier 1: Digi-Key; Supplier Part Number 1: ADG601BRMZ-REEL7-ND; Supplier 2: Mouser; Supplier Part Number 2: 584-ADG601BRMZ-R7; Configuration: SPST; Is OFF: 10pA, 10pA; Packing: Reel; Mounting Technology: Surface Mount; Code_JEDEC: MO-187-AA; ComponentLink1Description: Manufacturer URL; ComponentLink1URL: http://www.analog.com/en/index.html; ComponentLink2Description: Datasheet; ComponentLink2URL: http://www.analog.com/static/imported-files/data_sheets/ADG601_602.pdf; ComponentLink3Description: Package Specification; ComponentLink3URL: http://www.analog.com/static/imported-files/packages/PKG_PDF/MSOP%28RM%29/RM_8.pdf
footprint ADI-RM-8_N (SOP, 8-Leads, Body 3x3mm, Pitch 0.65mm, IPC Medium Density)
footprint ADI-RM-8_L (SOP, 8-Leads, Body 3x3mm, Pitch 0.65mm, IPC High Density)
footprint ADI-RM-8_M (SOP, 8-Leads, Body 3x3mm, Pitch 0.65mm, IPC Low Density)
pins: 1 D "Drain Terminal. Can be an input or output.", 2 NC "No Connect.", 3 NC "No Connect.", 4 VDD (power) "Most Positive Power Supply Potential.", 5 VSS (power) "Most Negative Power Supply Potential.", 6 IN (in) "Logic Control Input.", 7 GND (power) "Ground (0 V) Reference.", 8 S "Source Terminal. Can be an input or output."

## ADG601BRTZ-REEL
designator U?
2 Ohm, CMOS, +/-5 V / +5 V, SPST Switch, -40 to 85 degC, 6-pin SOT23 (RJ-6), Reel; Manufacturer: Analog Devices; PartNumber: ADG601BRTZ-REEL; Id, Is (ON): 10pA, 10pA; Max Pos Supply: 5.5V; Min Pos Supply: 2.7V; Power Dissipation: 10uW; Ron (ohms): 2; DatasheetVersion: Rev. C; PackageVersion: 121608-A, 12/2008; PackageReference: RJ-6; PackageDescription: 6-Pin Small Outline Transistor Package, Body 2.9 x 1.6 mm, Pitch 0.95 mm; Supplier 1: Digi-Key; Supplier Part Number 1: ADG601BRTZ-REEL-ND; Supplier 2: Newark; Supplier Part Number 2: 59K1407; Supplier 3: Mouser; Supplier Part Number 3: 584-ADG601BRTZ-R; Configuration: SPST; Is OFF: 10pA, 10pA; Packing: Reel; Mounting Technology: Surface Mount; Code_JEDEC: MO-178-AB; ComponentLink1Description: Manufacturer URL; ComponentLink1URL: http://www.analog.com/en/index.html; ComponentLink2Description: Datasheet; ComponentLink2URL: http://www.analog.com/static/imported-files/data_sheets/ADG601_602.pdf; ComponentLink3Description: Package Specification; ComponentLink3URL: http://www.analog.com/static/imported-files/packages/PKG_PDF/SOT-23(RJ)/RJ_6.pdf
footprint ADI-RJ-6_N (SOT23, 6-Leads, Body 2.9x1.6mm, Pitch 0.95mm, IPC Medium Density)
footprint ADI-RJ-6_L (SOT23, 6-Leads, Body 2.9x1.6mm, Pitch 0.95mm, IPC High Density)
footprint ADI-RJ-6_M (SOT23, 6-Leads, Body 2.9x1.6mm, Pitch 0.95mm, IPC Low Density)
pins: 1 VDD (power) "Most Positive Power Supply Potential", 2 S "Source Terminal. Can be an input or output.", 3 VSS (power) "Most Negative Power Supply Potential.", 4 GND (power) "Ground (0 V) Reference.", 5 D "Drain Terminal. Can be an input or output.", 6 IN (in) "Logic Control Input."

## ADG601BRTZ-REEL7
designator U?
2 Ohm, CMOS, +/-5 V / +5 V, SPST Switch, -40 to 85 degC, 6-pin SOT23 (RJ-6), Reel; Manufacturer: Analog Devices; PartNumber: ADG601BRTZ-REEL7; Id, Is (ON): 10pA, 10pA; Max Pos Supply: 5.5V; Min Pos Supply: 2.7V; Power Dissipation: 10uW; Ron (ohms): 2; DatasheetVersion: Rev. C; PackageVersion: 121608-A, 12/2008; PackageReference: RJ-6; PackageDescription: 6-Pin Small Outline Transistor Package, Body 2.9 x 1.6 mm, Pitch 0.95 mm; Supplier 1: Digi-Key; Supplier Part Number 1: ADG601BRTZ-REEL7TR-ND; Supplier 2: Digi-Key; Supplier Part Number 2: ADG601BRTZ-REEL7CT-ND; Supplier 3: Digi-Key; Supplier Part Number 3: ADG601BRTZ-REEL7DKR-ND; Supplier 4: Farnell; Supplier Part Number 4: 1661035; Supplier 5: Farnell; Supplier Part Number 5: 1661035RL; Supplier 6: Newark; Supplier Part Number 6: 19M8662; Supplier 7: Newark; Supplier Part Number 7: 59K1408; Supplier 8: Mouser; Supplier Part Number 8: 584-ADG601BRTZ-R7; Configuration: SPST; Is OFF: 10pA, 10pA; Packing: Reel; Mounting Technology: Surface Mount; Code_JEDEC: MO-178-AB; ComponentLink1Description: Manufacturer URL; ComponentLink1URL: http://www.analog.com/en/index.html; ComponentLink2Description: Datasheet; ComponentLink2URL: http://www.analog.com/static/imported-files/data_sheets/ADG601_602.pdf; ComponentLink3Description: Package Specification; ComponentLink3URL: http://www.analog.com/static/imported-files/packages/PKG_PDF/SOT-23(RJ)/RJ_6.pdf
footprint ADI-RJ-6_N (SOT23, 6-Leads, Body 2.9x1.6mm, Pitch 0.95mm, IPC Medium Density)
footprint ADI-RJ-6_L (SOT23, 6-Leads, Body 2.9x1.6mm, Pitch 0.95mm, IPC High Density)
footprint ADI-RJ-6_M (SOT23, 6-Leads, Body 2.9x1.6mm, Pitch 0.95mm, IPC Low Density)
pins: 1 VDD (power) "Most Positive Power Supply Potential", 2 S "Source Terminal. Can be an input or output.", 3 VSS (power) "Most Negative Power Supply Potential.", 4 GND (power) "Ground (0 V) Reference.", 5 D "Drain Terminal. Can be an input or output.", 6 IN (in) "Logic Control Input."

## ADG602BRMZ
designator U?
2 Ohm, CMOS, +/-5 V / +5 V, SPST Switch, -40 to 85 degC, 8-pin SOP (RM-8), Tube; Manufacturer: Analog Devices; PartNumber: ADG602BRMZ; Id, Is (ON): 10pA, 10pA; Max Pos Supply: 5.5V; Min Pos Supply: 2.7V; Power Dissipation: 10uW; Ron (ohms): 2; DatasheetVersion: Rev. C; PackageVersion: Aug-05; PackageReference: RM-8; PackageDescription: 8-Pin Mini Small Outline Package, Body 3 x 3 mm, Pitch 0.65 mm; Supplier 1: Digi-Key; Supplier Part Number 1: ADG602BRMZ-ND; Supplier 2: Farnell; Supplier Part Number 2: 1438883; Supplier 3: Newark; Supplier Part Number 3: 15P0381; Supplier 4: Newark; Supplier Part Number 4: 59K1409; Supplier 5: Mouser; Supplier Part Number 5: 584-ADG602BRMZ; Configuration: SPST; Is OFF: 10pA, 10pA; Packing: Tube; Mounting Technology: Surface Mount; Code_JEDEC: MO-187-AA; ComponentLink1Description: Manufacturer URL; ComponentLink1URL: http://www.analog.com/en/index.html; ComponentLink2Description: Datasheet; ComponentLink2URL: http://www.analog.com/static/imported-files/data_sheets/ADG601_602.pdf; ComponentLink3Description: Package Specification; ComponentLink3URL: http://www.analog.com/static/imported-files/packages/PKG_PDF/MSOP%28RM%29/RM_8.pdf
footprint ADI-RM-8_N (SOP, 8-Leads, Body 3x3mm, Pitch 0.65mm, IPC Medium Density)
footprint ADI-RM-8_L (SOP, 8-Leads, Body 3x3mm, Pitch 0.65mm, IPC High Density)
footprint ADI-RM-8_M (SOP, 8-Leads, Body 3x3mm, Pitch 0.65mm, IPC Low Density)
pins: 1 D "Drain Terminal. Can be an input or output.", 2 NC "No Connect.", 3 NC "No Connect.", 4 VDD (power) "Most Positive Power Supply Potential.", 5 VSS (power) "Most Negative Power Supply Potential.", 6 IN (in) "Logic Control Input.", 7 GND (power) "Ground (0 V) Reference.", 8 S "Source Terminal. Can be an input or output."

## ADG602BRMZ-REEL7
designator U?
2 Ohm, CMOS, +/-5 V / +5 V, SPST Switch, -40 to 85 degC, 8-pin SOP (RM-8), Reel; Manufacturer: Analog Devices; PartNumber: ADG602BRMZ-REEL7; Id, Is (ON): 10pA, 10pA; Max Pos Supply: 5.5V; Min Pos Supply: 2.7V; Power Dissipation: 10uW; Ron (ohms): 2; DatasheetVersion: Rev. C; PackageVersion: Aug-05; PackageReference: RM-8; PackageDescription: 8-Pin Mini Small Outline Package, Body 3 x 3 mm, Pitch 0.65 mm; Supplier 1: Digi-Key; Supplier Part Number 1: ADG602BRMZ-REEL7-ND; Supplier 2: Mouser; Supplier Part Number 2: 584-ADG602BRMZ-R7; Configuration: SPST; Is OFF: 10pA, 10pA; Packing: Reel; Mounting Technology: Surface Mount; Code_JEDEC: MO-187-AA; ComponentLink1Description: Manufacturer URL; ComponentLink1URL: http://www.analog.com/en/index.html; ComponentLink2Description: Datasheet; ComponentLink2URL: http://www.analog.com/static/imported-files/data_sheets/ADG601_602.pdf; ComponentLink3Description: Package Specification; ComponentLink3URL: http://www.analog.com/static/imported-files/packages/PKG_PDF/MSOP%28RM%29/RM_8.pdf
footprint ADI-RM-8_N (SOP, 8-Leads, Body 3x3mm, Pitch 0.65mm, IPC Medium Density)
footprint ADI-RM-8_L (SOP, 8-Leads, Body 3x3mm, Pitch 0.65mm, IPC High Density)
footprint ADI-RM-8_M (SOP, 8-Leads, Body 3x3mm, Pitch 0.65mm, IPC Low Density)
pins: 1 D "Drain Terminal. Can be an input or output.", 2 NC "No Connect.", 3 NC "No Connect.", 4 VDD (power) "Most Positive Power Supply Potential.", 5 VSS (power) "Most Negative Power Supply Potential.", 6 IN (in) "Logic Control Input.", 7 GND (power) "Ground (0 V) Reference.", 8 S "Source Terminal. Can be an input or output."